# Altium footprint library ESP32-S3-WROOM-1U-N16R8.PcbLib: 1 footprints
Each footprint in its own frame and in the unit in brackets; x right, y up, seen from the top. Pads: shape width x height; smd on the part's side, far side on the other; paste and mask are expansions set on the pad; w line width, h text height; cw(c..) or ccw(c..) is an arc to the next point about the centre after c.
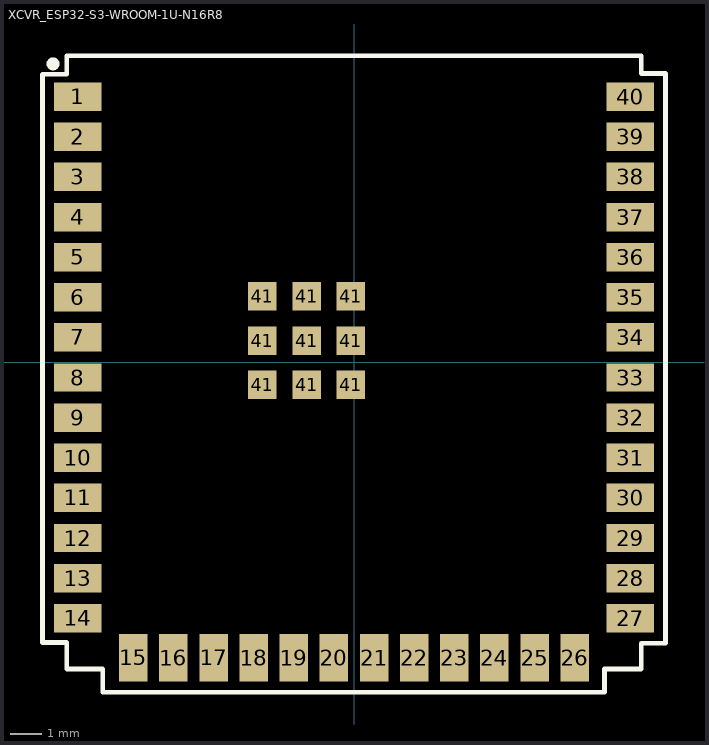
[diagram p0: the footprint, top view; thin cyan lines are the x and y axes]

## XCVR_ESP32-S3-WROOM-1U-N16R8 [mm]
height 3.35
pads (49):
  rect 1.5x0.9 smd: 1(-8.75,8.41) 2(-8.75,7.14) 3(-8.75,5.87) 4(-8.75,4.6) 5(-8.75,3.33) 6(-8.75,2.06) 7(-8.75,0.79) 8(-8.75,-0.48) 9(-8.75,-1.75) 10(-8.75,-3.02) 11(-8.75,-4.29) 12(-8.75,-5.56) 13(-8.75,-6.83) 14(-8.75,-8.1) 27(8.75,-8.1) 28(8.75,-6.83) 29(8.75,-5.56) 30(8.75,-4.29) 31(8.75,-3.02) 32(8.75,-1.75) 33(8.75,-0.48) 34(8.75,0.79) 35(8.75,2.06) 36(8.75,3.33) 37(8.75,4.6) 38(8.75,5.87) 39(8.75,7.14) 40(8.75,8.41)
  rect 0.9x1.5 smd: 15(-6.985,-9.35) 16(-5.715,-9.35) 17(-4.445,-9.35) 18(-3.175,-9.35) 19(-1.905,-9.35) 20(-0.635,-9.35) 21(0.635,-9.35) 22(1.905,-9.35) 23(3.175,-9.35) 24(4.445,-9.35) 25(5.715,-9.35) 26(6.985,-9.35)
  rect 0.9x0.9 smd: 41(-2.9,-0.71) 41(-2.9,0.69) 41(-2.9,2.09) 41(-1.5,-0.71) 41(-1.5,0.69) 41(-1.5,2.09) 41(-0.1,-0.71) 41(-0.1,0.69) 41(-0.1,2.09)
Top Overlay:
  circle w0.254: c-9.525,9.449 r0.076
  lines w0.152: -9.855,-8.865 -9.093,-8.865 -9.093,-9.703 -7.95,-9.703 -7.95,-10.439 7.925,-10.439 7.925,-9.703 9.093,-9.703 9.093,-8.89 9.855,-8.89 9.855,9.144 9.093,9.144 9.093,9.703 -9.093,9.703 -9.093,9.119 -9.855,9.119 -9.855,-8.865
3D body "step_temp.STEP": height 3.35, standoff 0, extent -9,-9.6 9,9.6